# EAGLE library part YC164J-10KCT-ND (library rfc)
4 pack of resistors
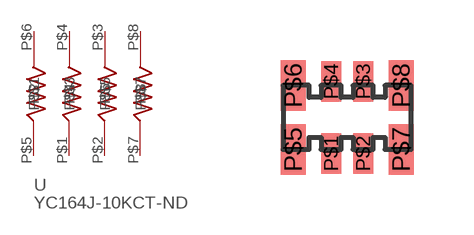
[diagram p2: symbol with the pads of 0603X4; footprint 0603X4]

Designator prefix -

## YC164J-10KCT-ND  [0603X4]
P$1  P$3
P$2  P$5
P$3  P$6
P$4  P$4
P$5  P$1
P$6  P$2
P$7  P$7
P$8  P$8

## Footprint 0603X4 (pad centres in mm)
smd 0.508 x 1.016: P$1 1.2,-0.1; P$2 2,-0.1; P$3 2,1.7; P$4 1.2,1.7
smd 0.635 x 1.27: P$5 0.25,0; P$6 0.25,1.6; P$7 2.95,0; P$8 2.95,1.6